# Altium footprint library power.PcbLib: 1 footprints
Each footprint in its own frame and in the unit in brackets; x right, y up, seen from the top. Pads: shape width x height; smd on the part's side, far side on the other; paste and mask are expansions set on the pad; w line width, h text height; cw(c..) or ccw(c..) is an arc to the next point about the centre after c.
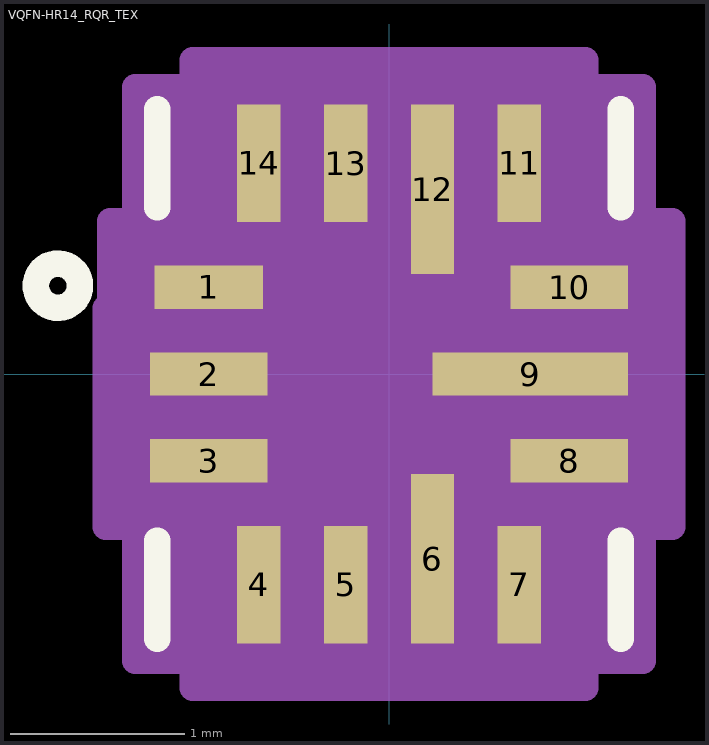
[diagram p0: the footprint, top view; thin cyan lines are the x and y axes]

## VQFN-HR14_RQR_TEX [mm]
pads (14):
  rect 0.625x0.25 smd paste+0 mask+0: 1(-1.038,0.5)
  rect 0.675x0.25 smd paste+0 mask+0: 2(-1.038,0) 3(-1.038,-0.5) 8(1.038,-0.5) 10(1.038,0.5)
  rect 0.25x0.675 smd paste+0 mask+0: 4(-0.75,-1.212) 5(-0.25,-1.212) 7(0.75,-1.212) 11(0.75,1.212) 13(-0.25,1.212) 14(-0.75,1.212)
  rect 0.25x0.975 smd paste+0 mask+0: 6(0.25,-1.062) 12(0.25,1.062)
  rect 1.125x0.25 smd paste+0 mask+0: 9(0.813,0)
Top Overlay:
  circle w0.152: c-1.905,0.508 r0.127
  lines w0.152: -1.333,-1.524 -1.333,-0.958 ; -1.333,0.958 -1.333,1.524 ; 1.333,-1.524 1.333,-0.958 ; 1.333,0.958 1.333,1.524
Mechanical 13:
  lines w0.025: -1.206,0.127 0.064,1.397 ; -1.206,-1.397 -1.206,1.397 1.206,1.397 1.206,-1.397 -1.206,-1.397
  text "*" at -0.407,-0.135 h1.27
Mechanical 15:
  region: -1.129,1.651 -1.46,1.651 -1.46,0.879 -1.604,0.879 -1.604,0.379 -1.629,0.379 -1.629,-0.879 -1.46,-0.879 -1.46,-1.651 -1.129,-1.651 -1.129,-1.804 -0.129,-1.804 0.371,-1.804 1.129,-1.804 1.129,-1.651 1.46,-1.651 1.46,-0.879 1.629,-0.879 1.629,-0.379 1.629,0.121 1.629,0.879 1.46,0.879 1.46,1.651 1.129,1.651 1.129,1.804 0.629,1.804 0.129,1.804 -1.129,1.804
  lines w0.152: -0.129,-1.804 0.371,-1.804 ; -0.129,-1.804 -0.129,-1.804 ; -0.129,-1.804 -1.129,-1.804 -1.129,-1.651 -1.46,-1.651 -1.46,-0.879 -1.629,-0.879 -1.629,0.379 -1.604,0.379 -1.604,0.879 -1.46,0.879 -1.46,1.651 -1.129,1.651 -1.129,1.804 0.129,1.804 ; 0.129,1.804 0.129,1.804 ; 0.129,1.804 0.629,1.804 ; 0.371,-1.804 1.129,-1.804 1.129,-1.651 1.46,-1.651 1.46,-0.879 1.629,-0.879 1.629,-0.379 ; 0.371,-1.804 0.371,-1.804 ; 0.629,1.804 0.629,1.804 ; 0.629,1.804 1.129,1.804 1.129,1.651 1.46,1.651 1.46,0.879 1.629,0.879 1.629,0.121 ; 1.629,-0.379 1.629,0.121 ; 1.629,-0.379 1.629,-0.379 ; 1.629,0.121 1.629,0.121
3D body "RQR0014B.stp": height 1, standoff 0, extent -1.15,-1.35 1.15,1.35